# Altium footprint library FEV-60_PcbLib.PcbLib: 26 footprints (part 2 of 2)
Each footprint in its own frame and in the unit in brackets; x right, y up, seen from the top. Pads: shape width x height; smd on the part's side, far side on the other; paste and mask are expansions set on the pad; w line width, h text height; cw(c..) or ccw(c..) is an arc to the next point about the centre after c.
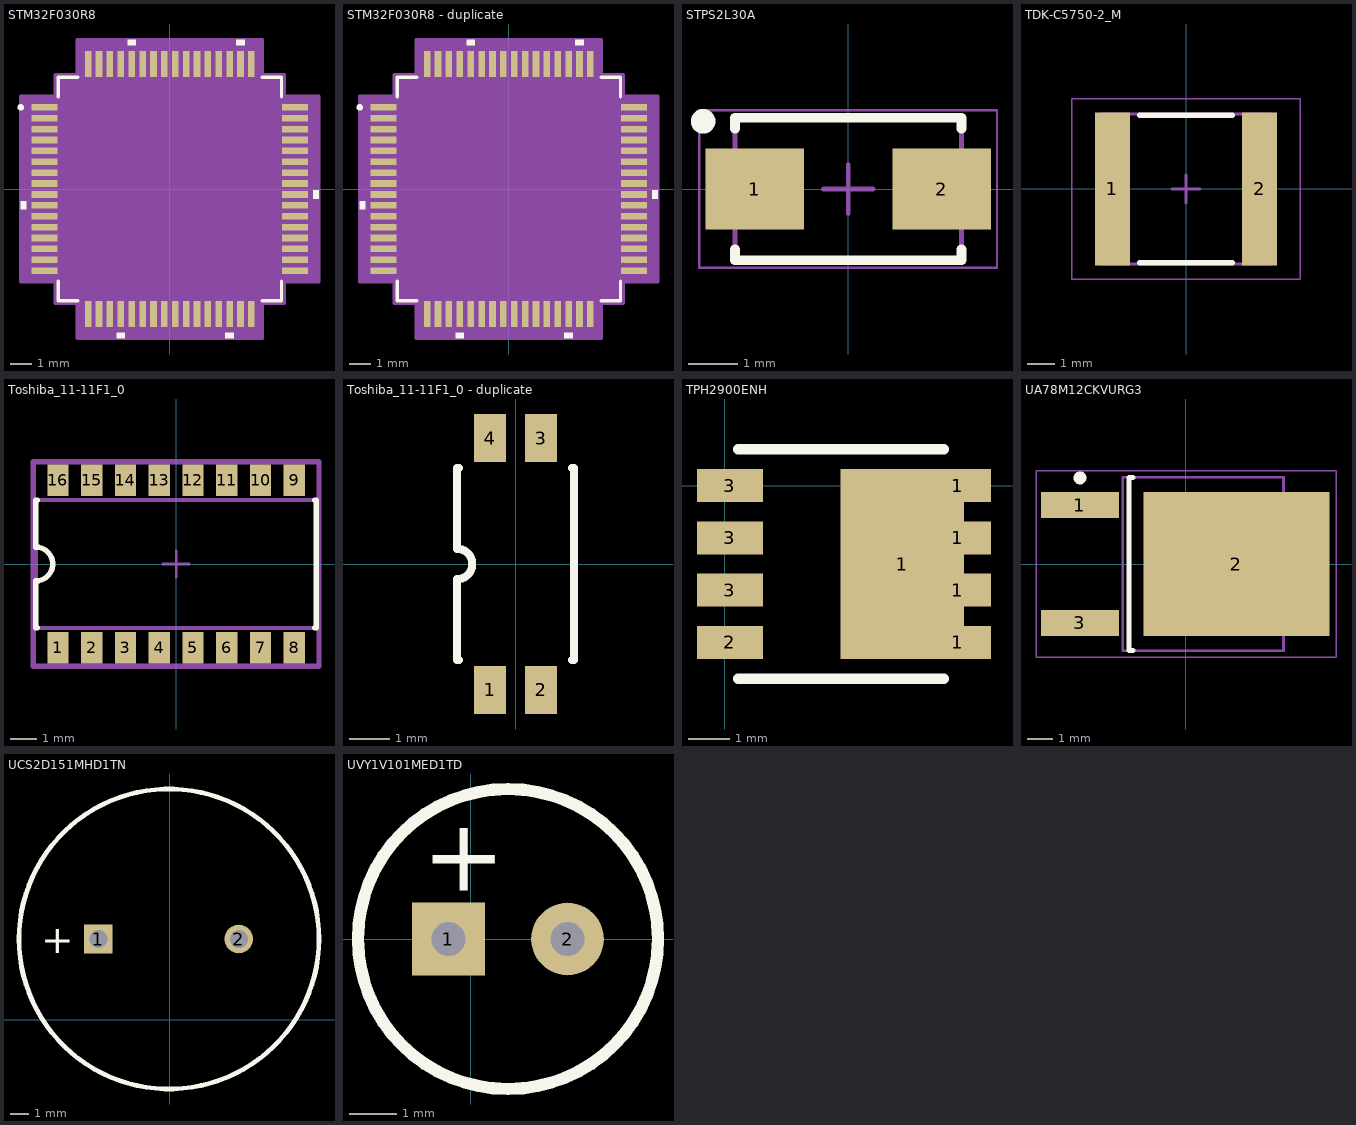
[diagram p1: the footprints below, top view; thin cyan lines are the x and y axes]

## STM32F030R8 [mm]
pads (64):
  rect 1.194x0.305 smd: 1(-5.75,3.75) 2(-5.75,3.25) 3(-5.75,2.75) 4(-5.75,2.25) 5(-5.75,1.75) 6(-5.75,1.25) 7(-5.75,0.75) 8(-5.75,0.25) 9(-5.75,-0.25) 10(-5.75,-0.75) 11(-5.75,-1.25) 12(-5.75,-1.75) 13(-5.75,-2.25) 14(-5.75,-2.75) 15(-5.75,-3.25) 16(-5.75,-3.75) 33(5.75,-3.75) 34(5.75,-3.25) 35(5.75,-2.75) 36(5.75,-2.25) 37(5.75,-1.75) 38(5.75,-1.25) 39(5.75,-0.75) 40(5.75,-0.25) 41(5.75,0.25) 42(5.75,0.75) 43(5.75,1.25) 44(5.75,1.75) 45(5.75,2.25) 46(5.75,2.75) 47(5.75,3.25) 48(5.75,3.75)
  rect 0.305x1.194 smd: 17(-3.75,-5.75) 18(-3.25,-5.75) 19(-2.75,-5.75) 20(-2.25,-5.75) 21(-1.75,-5.75) 22(-1.25,-5.75) 23(-0.75,-5.75) 24(-0.25,-5.75) 25(0.25,-5.75) 26(0.75,-5.75) 27(1.25,-5.75) 28(1.75,-5.75) 29(2.25,-5.75) 30(2.75,-5.75) 31(3.25,-5.75) 32(3.75,-5.75) 49(3.75,5.75) 50(3.25,5.75) 51(2.75,5.75) 52(2.25,5.75) 53(1.75,5.75) 54(1.25,5.75) 55(0.75,5.75) 56(0.25,5.75) 57(-0.25,5.75) 58(-0.75,5.75) 59(-1.25,5.75) 60(-1.75,5.75) 61(-2.25,5.75) 62(-2.75,5.75) 63(-3.25,5.75) 64(-3.75,5.75)
Top Overlay:
  circle w0.152: c-6.851,3.75 r0.076
  region: -1.559,6.601 -1.94,6.601 -1.94,6.855 -1.559,6.855
  region: 3.441,6.601 3.06,6.601 3.06,6.855 3.441,6.855
  region: 6.601,-0.059 6.855,-0.059 6.855,-0.44 6.601,-0.44
  region: 2.94,-6.601 2.559,-6.601 2.559,-6.855 2.94,-6.855
  region: -2.06,-6.601 -2.441,-6.601 -2.441,-6.855 -2.06,-6.855
  region: -6.601,-0.56 -6.855,-0.56 -6.855,-0.941 -6.601,-0.941
  lines w0.152: -5.131,-4.234 -5.131,-5.131 -4.234,-5.131 ; -5.131,4.234 -5.131,5.131 -4.234,5.131 ; 4.234,-5.131 5.131,-5.131 5.131,-4.234 ; 4.234,5.131 5.131,5.131 5.131,4.234
Mechanical 13:
  circle w0: c-4.518,3.75 r0.076
  lines w0.025: -5.004,3.734 -3.734,5.004 ; -5.004,-5.004 -5.004,5.004 5.004,5.004 5.004,-5.004 -5.004,-5.004
Mechanical 15:
  region: -4.258,-5.258 -5.258,-5.258 -5.258,-4.258 -6.855,-4.258 -6.855,4.258 -5.258,4.258 -5.258,5.258 -4.258,5.258 -4.258,6.855 4.258,6.855 4.258,5.258 5.258,5.258 5.258,4.258 6.855,4.258 6.855,-4.258 5.258,-4.258 5.258,-5.258 4.258,-5.258 4.258,-6.855 -4.258,-6.855
  lines w0.152: -6.855,-4.258 -6.855,4.258 -5.258,4.258 -5.258,5.258 -4.258,5.258 -4.258,6.855 4.258,6.855 4.258,5.258 5.258,5.258 5.258,4.258 6.855,4.258 6.855,-4.258 5.258,-4.258 5.258,-5.258 4.258,-5.258 4.258,-6.855 -4.258,-6.855 -4.258,-5.258 -5.258,-5.258 -5.258,-4.258 -6.855,-4.258
3D body: height 0.25, standoff 0, extent 0,0 0.254,0.254
3D body "LQFP64-10x10mm.step": height 1.6, standoff 0, extent -5.997,-5.997 5.997,5.997

## STM32F030R8 - duplicate [mm]
pads (64):
  rect 1.194x0.305 smd: 1(-5.75,3.75) 2(-5.75,3.25) 3(-5.75,2.75) 4(-5.75,2.25) 5(-5.75,1.75) 6(-5.75,1.25) 7(-5.75,0.75) 8(-5.75,0.25) 9(-5.75,-0.25) 10(-5.75,-0.75) 11(-5.75,-1.25) 12(-5.75,-1.75) 13(-5.75,-2.25) 14(-5.75,-2.75) 15(-5.75,-3.25) 16(-5.75,-3.75) 33(5.75,-3.75) 34(5.75,-3.25) 35(5.75,-2.75) 36(5.75,-2.25) 37(5.75,-1.75) 38(5.75,-1.25) 39(5.75,-0.75) 40(5.75,-0.25) 41(5.75,0.25) 42(5.75,0.75) 43(5.75,1.25) 44(5.75,1.75) 45(5.75,2.25) 46(5.75,2.75) 47(5.75,3.25) 48(5.75,3.75)
  rect 0.305x1.194 smd: 17(-3.75,-5.75) 18(-3.25,-5.75) 19(-2.75,-5.75) 20(-2.25,-5.75) 21(-1.75,-5.75) 22(-1.25,-5.75) 23(-0.75,-5.75) 24(-0.25,-5.75) 25(0.25,-5.75) 26(0.75,-5.75) 27(1.25,-5.75) 28(1.75,-5.75) 29(2.25,-5.75) 30(2.75,-5.75) 31(3.25,-5.75) 32(3.75,-5.75) 49(3.75,5.75) 50(3.25,5.75) 51(2.75,5.75) 52(2.25,5.75) 53(1.75,5.75) 54(1.25,5.75) 55(0.75,5.75) 56(0.25,5.75) 57(-0.25,5.75) 58(-0.75,5.75) 59(-1.25,5.75) 60(-1.75,5.75) 61(-2.25,5.75) 62(-2.75,5.75) 63(-3.25,5.75) 64(-3.75,5.75)
Top Overlay:
  circle w0.152: c-6.851,3.75 r0.076
  region: -6.601,-0.56 -6.855,-0.56 -6.855,-0.941 -6.601,-0.941
  region: -2.06,-6.601 -2.441,-6.601 -2.441,-6.855 -2.06,-6.855
  region: 2.94,-6.601 2.559,-6.601 2.559,-6.855 2.94,-6.855
  region: 6.601,-0.059 6.855,-0.059 6.855,-0.44 6.601,-0.44
  region: 3.441,6.601 3.06,6.601 3.06,6.855 3.441,6.855
  region: -1.559,6.601 -1.94,6.601 -1.94,6.855 -1.559,6.855
  lines w0.152: -5.131,-4.234 -5.131,-5.131 -4.234,-5.131 ; -5.131,4.234 -5.131,5.131 -4.234,5.131 ; 4.234,-5.131 5.131,-5.131 5.131,-4.234 ; 4.234,5.131 5.131,5.131 5.131,4.234
Mechanical 13:
  circle w0: c-4.518,3.75 r0.076
  lines w0.025: -5.004,3.734 -3.734,5.004 ; -5.004,-5.004 5.004,-5.004 5.004,5.004 -5.004,5.004 -5.004,-5.004
Mechanical 15:
  region: -4.258,-5.258 -5.258,-5.258 -5.258,-4.258 -6.855,-4.258 -6.855,4.258 -5.258,4.258 -5.258,5.258 -4.258,5.258 -4.258,6.855 4.258,6.855 4.258,5.258 5.258,5.258 5.258,4.258 6.855,4.258 6.855,-4.258 5.258,-4.258 5.258,-5.258 4.258,-5.258 4.258,-6.855 -4.258,-6.855
  lines w0.152: -6.855,-4.258 -5.258,-4.258 -5.258,-5.258 -4.258,-5.258 -4.258,-6.855 4.258,-6.855 4.258,-5.258 5.258,-5.258 5.258,-4.258 6.855,-4.258 6.855,4.258 5.258,4.258 5.258,5.258 4.258,5.258 4.258,6.855 -4.258,6.855 -4.258,5.258 -5.258,5.258 -5.258,4.258 -6.855,4.258 -6.855,-4.258
3D body "LQFP64-10x10mm.step": height 1.6, standoff 0, extent -5.997,-5.997 5.997,5.997
3D body: height 0.25, standoff 0, extent 0,0 0.254,0.254

## STPS2L30A [mm] "SODFL, Shottkey Diode"
height 2.45
pads (2):
  rect 2x1.65 smd: 1(-1.9,0) 2(1.9,0)
Top Overlay:
  circle w0.25: c-2.95,1.375 r0.125
  lines w0.2: -2.3,-1.225 -2.3,-1.45 2.3,-1.45 2.3,-1.225 ; -2.3,1.225 -2.3,1.45 2.3,1.45 2.3,1.225
Mechanical 13:
  lines w0.1: -2.3,-1.45 -2.3,1.45 2.3,1.45 2.3,-1.45 -2.3,-1.45
Mechanical 15:
  lines w0.05: -3.025,-1.6 -3.025,1.6 3.025,1.6 3.025,-1.6 -3.025,-1.6
  lines w0.1: -0.5,0 0.5,0 ; 0,-0.5 0,0.5
3D body "STPS2L30A.step": height 2.45, standoff 0, extent -2.538,-1.45 2.538,1.45

## TDK-C5750-2_M [mm] "SMD, 2-Leads, Body 6.1x5.4mm, IPC Low Density"
height 2.5
pads (2):
  rect 1.27x5.5 smd: 1(-2.644,0) 2(2.644,0)
Top Overlay:
  lines w0.2: -1.669,-2.65 1.669,-2.65 ; -1.669,2.65 1.669,2.65
Mechanical 13:
  lines w0.1: -3.05,-2.7 -3.05,2.7 3.05,2.7 3.05,-2.7 -3.05,-2.7
Mechanical 15:
  lines w0.05: -4.1,-3.25 -4.1,3.25 4.1,3.25 4.1,-3.25 -4.1,-3.25
  lines w0.1: -0.5,0 0.5,0 ; 0,-0.5 0,0.5
3D body: height 2.5, standoff 0, extent -2.85,-2.7 2.85,2.7
3D body: height 2.5, standoff 0, extent -3.05,-2.7 -2.85,2.7
3D body: height 2.5, standoff 0, extent 2.85,-2.7 3.05,2.7

## Toshiba_11-11F1_0 [mm]
pads (16):
  rect 0.8x1.2 smd paste+0 mask+0: 1(-4.445,-3.15) 2(-3.175,-3.15) 3(-1.905,-3.15) 4(-0.635,-3.15) 5(0.635,-3.15) 6(1.905,-3.15) 7(3.175,-3.15) 8(4.445,-3.15) 9(4.445,3.15) 10(3.175,3.15) 11(1.905,3.15) 12(0.635,3.15) 13(-0.635,3.15) 14(-1.905,3.15) 15(-3.175,3.15) 16(-4.445,3.15)
Top Overlay:
  lines w0.2: -5.22,-2.4 -5.275,-2.4 -5.275,-0.635 ccw(c-5.275,0) -5.275,0.635 -5.275,2.4 -5.22,2.4 ; 5.22,-2.4 5.275,-2.4 5.275,2.4 5.22,2.4
Mechanical 10:
  lines w0.2: -5.375,-3.85 5.375,-3.85 5.375,3.85 -5.375,3.85 -5.375,-3.85
Mechanical 12:
  lines w0.15: -5.275,-2.4 5.275,-2.4 5.275,2.4 -5.275,2.4 -5.275,-2.4
Mechanical 15:
  lines w0.1: -0.5,0 0.5,0 ; 0,-0.5 0,0.5
  lines w0.2: -5.375,-3.85 5.375,-3.85 5.375,3.85 -5.375,3.85 -5.375,-3.85
3D body: height 0.25, standoff 0, extent -5.375,-3.85 5.375,3.85

## Toshiba_11-11F1_0 - duplicate [mm]
pads (4):
  rect 0.8x1.2 smd paste+0 mask+0: 1(-0.635,-3.15) 2(0.635,-3.15) 3(0.635,3.15) 4(-0.635,3.15)
Top Overlay:
  lines w0.2: -1.465,-0.381 ccw(c-1.465,0) -1.465,0.381 ; -1.465,-0.377 -1.465,-2.4 -1.41,-2.4 ; -1.465,0.377 -1.465,2.4 -1.41,2.4 ; 1.41,-2.4 1.465,-2.4 1.465,2.4 1.41,2.4

## TPH2900ENH [mm]
pads (9):
  rect 3x4.61 smd: 1(4.318,-1.905)
  rect 1.6x0.8 smd: 1(5.673,-3.81) 1(5.673,-2.54) 1(5.673,-1.27) 1(5.673,0) 2(0.127,-3.81) 3(0.127,-2.54) 3(0.127,-1.27) 3(0.127,0)
Top Overlay:
  lines w0.254: 0.334,-4.699 5.334,-4.699 ; 0.334,0.889 5.334,0.889

## UA78M12CKVURG3 [mm] "12V LDO, 3-Pads, Body 6.21x6.71mm (max), IPC Medium Density"
height 2.52
pads (3):
  rect 3x1 smd: 1(-4.1,2.28) 3(-4.1,-2.28)
  rect 7.2x5.55 smd: 2(1.95,0)
Top Overlay:
  circle w0.25: c-4.1,3.33 r0.125
  lines w0.2: -2.05,-3.35 -2.2,-3.35 -2.2,3.35 -2.05,3.35
Mechanical 13:
  lines w0.1: -2.45,-3.35 3.77,-3.35 3.77,3.35 -2.45,3.35 -2.45,-3.35
Mechanical 15:
  lines w0.05: -5.8,-3.6 5.8,-3.6 5.8,3.6 -5.8,3.6 -5.8,-3.6
  lines w0.1: -0.5,0 0.5,0 ; 0,-0.5 0,0.5
3D body "UA78M12CKVURG3.step": height 2.52, standoff 0, extent -4.53,-3.35 5.37,3.35

## UCS2D151MHD1TN [mil] "Radial Cap 50% Protection"
pads (2):
  rect 60x60 hole 38: 1(-150,170)
  round 60 hole 38: 2(145,170)
Top Overlay:
  circle w10: c-1.57,170 r314.96
  text "+" at -270,140 h60

## UVY1V101MED1TD [mil] "Radial Cap from Nichicon"
pads (2):
  rect 60x60 hole 28: 1(-18.43,0)
  round 60 hole 28: 2(80,0)
Top Overlay:
  circle w10: c30.79,0 r124.02
  text "+" at -40,40 h60